# Altium footprint library CONNECTOR.PCBLIB: 232 footprints (part 3 of 15)
Each footprint in its own frame and in the unit in brackets; x right, y up, seen from the top. Pads: shape width x height; smd on the part's side, far side on the other; paste and mask are expansions set on the pad; w line width, h text height; cw(c..) or ccw(c..) is an arc to the next point about the centre after c.
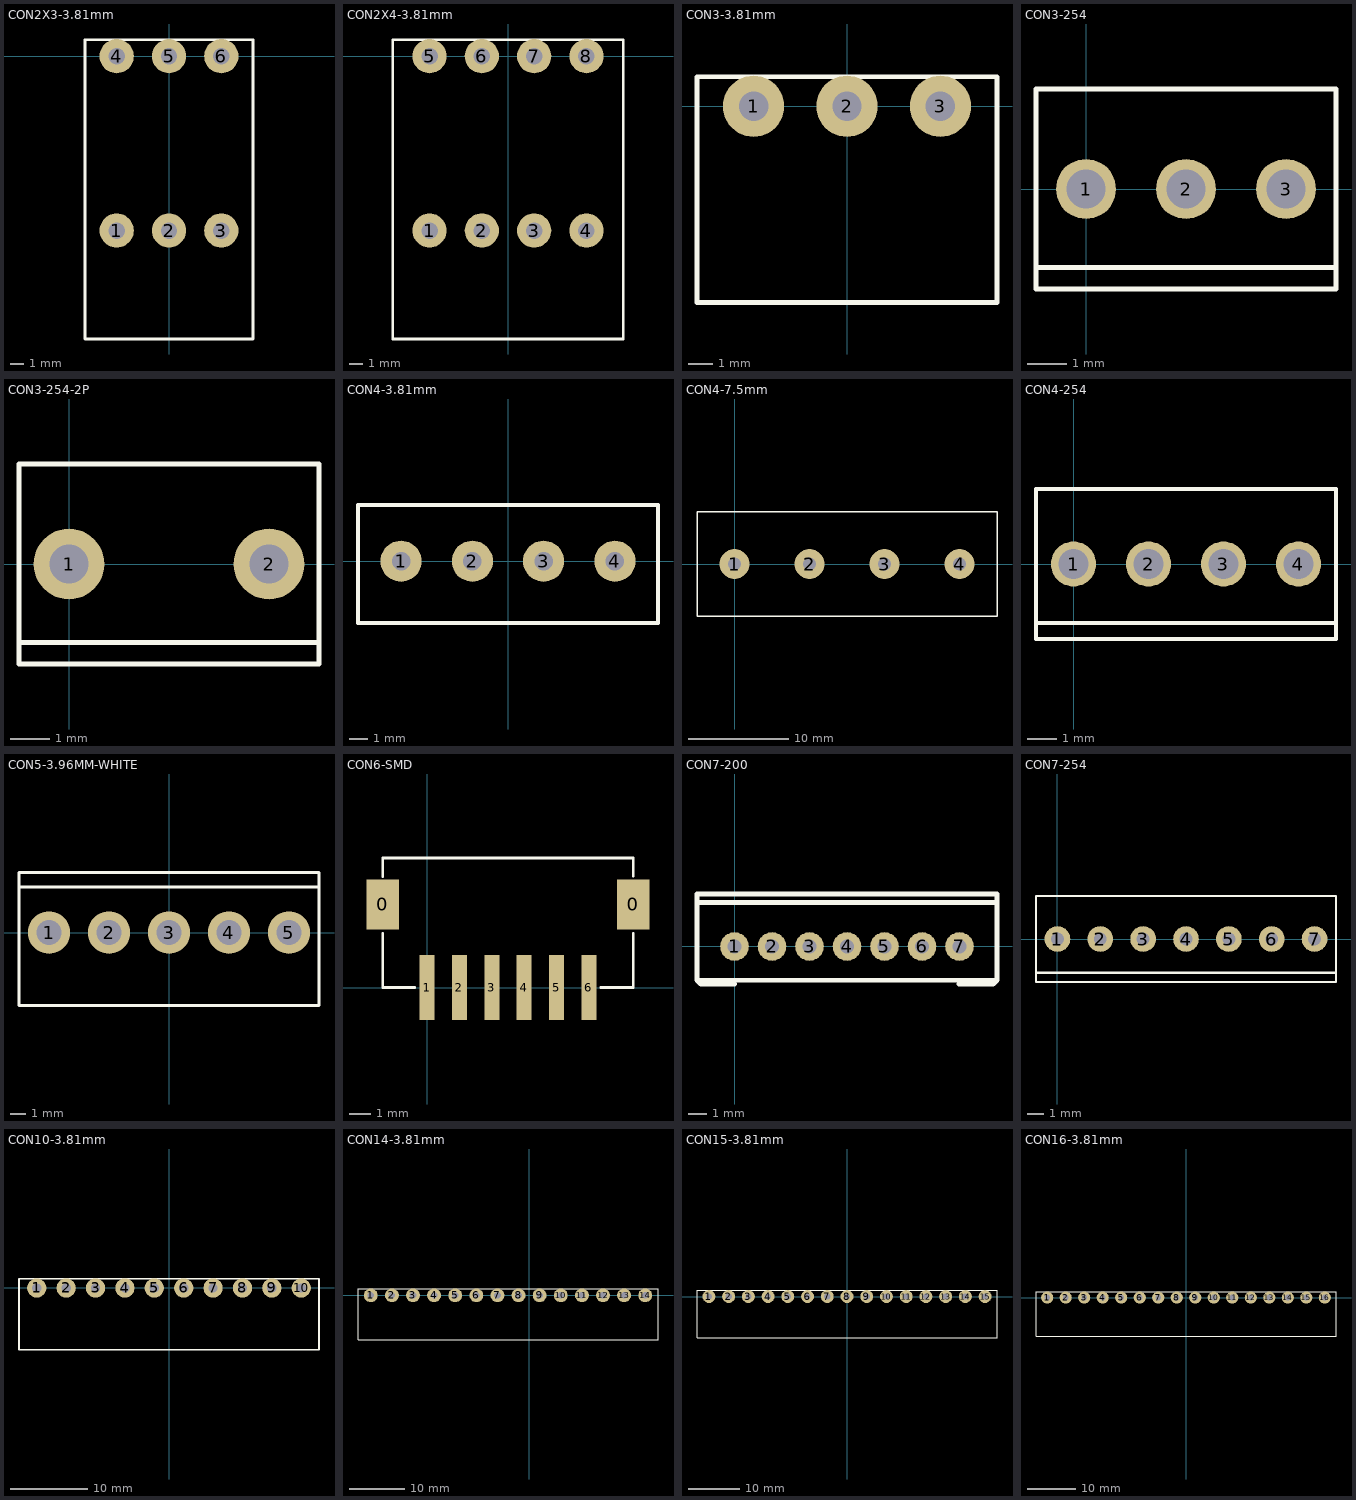
[diagram p2: the footprints below, top view; thin cyan lines are the x and y axes]

## CON2X3-3.81mm [mm] "CON2X3-3.81mm"
pads (6):
  round 2.5 hole 1.2: 1(-3.81,-12.7) 2(0,-12.7) 3(3.81,-12.7) 4(-3.81,0) 5(0,0) 6(3.81,0)
TopOverlay:
  lines w0.2: -6.115,-20.6 -6.115,1.2 6.115,1.2 6.115,-20.6 -6.115,-20.6

## CON2X4-3.81mm [mm] "CON2X4-3.81mm"
pads (8):
  round 2.5 hole 1.2: 1(-5.715,-12.7) 2(-1.905,-12.7) 3(1.905,-12.7) 4(5.715,-12.7) 5(-5.715,0) 6(-1.905,0) 7(1.905,0) 8(5.715,0)
TopOverlay:
  lines w0.2: -8.4,-20.6 -8.4,1.2 8.4,1.2 8.4,-20.6 -8.4,-20.6

## CON3-3.81mm [mm] "CON3-3.81mm"
pads (3):
  round 2.5 hole 1.2: 1(-3.81,0) 2(0,0) 3(3.81,0)
TopOverlay:
  lines w0.2: -6.115,-8 -6.115,1.2 6.115,1.2 6.115,-8 -6.115,-8

## CON3-254 [mil]
pads (3):
  round 60 hole 39.37: 1(0,0) 2(100,0) 3(200,0)
TopOverlay:
  lines w5: -50,-78.74 247.05,-78.74 ; -50,-100 -50,100 250,100 250,-100 -50,-100

## CON3-254-2P [mm]
pads (2):
  round 1.8 hole 1: 1(0,0) 2(5.08,0)
TopOverlay:
  lines w0.127: -1.27,-2 6.275,-2 ; -1.27,-2.54 6.35,-2.54 6.35,2.54 -1.27,2.54 -1.27,-2.54

## CON4-3.81mm [mm] "CON4-3.81mm"
pads (4):
  round 2.2 hole 1: 1(-5.715,0) 2(-1.905,0) 3(1.905,0) 4(5.715,0)
TopOverlay:
  lines w0.2: -8.02,-3.3 -8.02,3 8.02,3 8.02,-3.3 -8.02,-3.3

## CON4-7.5mm [mm] "CON4-7.5mm"
pads (4):
  round 3 hole 1.3: 1(0,0) 2(7.5,0) 3(15,0) 4(22.5,0)
TopOverlay:
  lines w0.127: -3.75,-5.25 -3.75,5.25 26.25,5.25 26.25,-5.25 -3.75,-5.25

## CON4-254 [mil]
pads (4):
  round 60 hole 39.37: 1(0,0) 2(100,0) 3(200,0) 4(300,0)
TopOverlay:
  lines w5: -50,-78.74 350,-78.74 ; -50,-100 -50,100 350,100 350,-100 -50,-100

## CON5-3.96MM-WHITE [mm]
pads (5):
  round 2.8 hole 1.65: 1(-7.92,0) 2(-3.96,0) 3(0,0) 4(3.96,0) 5(7.92,0)
TopOverlay:
  lines w0.2: -9.9,3 9.9,3 ; -9.9,-4.8 9.9,-4.8 9.9,3.95 -9.9,3.95 -9.9,-4.8

## CON6-SMD [mm]
pads (8):
  rect 1.5x2.3 smd: 0(-2.05,3.85) 0(9.55,3.85)
  rect 0.7x3 smd: 1(0,0) 2(1.5,0) 3(3,0) 4(4.5,0) 5(6,0) 6(7.5,0)
TopOverlay:
  lines w0.127: -2.05,2.5 -2.05,0 -0.575,0 ; -2.05,5.149 -2.05,6 9.55,6 9.55,5.171 ; 8.048,0 9.55,0 9.55,2.5

## CON7-200 [mil]
pads (7):
  round 60 hole 30: 1(0,0) 2(78.74,0) 3(157.48,0) 4(236.22,0) 5(314.96,0) 6(393.7,0) 7(472.44,0)
TopOverlay:
  lines w10: -78.74,92.52 551.18,92.52 ; 0,-78.74 -70.87,-78.74 -78.74,-70.87 ; 471.46,-78.74 543.31,-78.74 551.18,-70.87 ; -78.74,-70.87 -78.74,110.24 551.18,110.24 551.18,-70.87 ; -78.74,-70.87 551.18,-70.87

## CON7-254 [mil]
pads (7):
  round 60 hole 30: 1(0,0) 2(100,0) 3(200,0) 4(300,0) 5(400,0) 6(500,0) 7(600,0)
TopOverlay:
  lines w5: -50,-78.74 650,-78.74 ; -50,-100 -50,100 650,100 650,-100 -50,-100

## CON10-3.81mm [mm] "CON10-3.81mm"
pads (10):
  round 2.5 hole 1.2: 1(-17.145,0) 2(-13.335,0) 3(-9.525,0) 4(-5.715,0) 5(-1.905,0) 6(1.905,0) 7(5.715,0) 8(9.525,0) 9(13.335,0) 10(17.145,0)
TopOverlay:
  lines w0.2: -19.45,-8 19.45,-8 19.45,1.2 -19.45,1.2 -19.45,-8

## CON14-3.81mm [mm] "CON14-3.81mm"
pads (14):
  round 2.5 hole 1.2: 1(-28.575,0) 2(-24.765,0) 3(-20.955,0) 4(-17.145,0) 5(-13.335,0) 6(-9.525,0) 7(-5.715,0) 8(-1.905,0) 9(1.905,0) 10(5.715,0) 11(9.525,0) 12(13.335,0) 13(17.145,0) 14(20.955,0)
TopOverlay:
  lines w0.2: -30.88,-8 23.26,-8 23.26,1.2 -30.88,1.2 -30.88,-8

## CON15-3.81mm [mm] "CON15-3.81mm"
pads (15):
  round 2.5 hole 1.2: 1(-26.67,0) 2(-22.86,0) 3(-19.05,0) 4(-15.24,0) 5(-11.43,0) 6(-7.62,0) 7(-3.81,0) 8(0,0) 9(3.81,0) 10(7.62,0) 11(11.43,0) 12(15.24,0) 13(19.05,0) 14(22.86,0) 15(26.67,0)
TopOverlay:
  lines w0.2: -28.975,-8 28.975,-8 28.975,1.2 -28.975,1.2 -28.975,-8

## CON16-3.81mm [mm] "CON16-3.81mm"
pads (16):
  round 2.5 hole 1.2: 1(-28.575,0) 2(-24.765,0) 3(-20.955,0) 4(-17.145,0) 5(-13.335,0) 6(-9.525,0) 7(-5.715,0) 8(-1.905,0) 9(1.905,0) 10(5.715,0) 11(9.525,0) 12(13.335,0) 13(17.145,0) 14(20.955,0) 15(24.765,0) 16(28.575,0)
TopOverlay:
  lines w0.2: -30.88,-8 30.88,-8 30.88,1.2 -30.88,1.2 -30.88,-8